# Altium schematic symbol library SCH - IC-Memory - AT24CM02.SchLib: 1 symbol
Pins are listed as number, name and electrical type; pins without a type are passive.

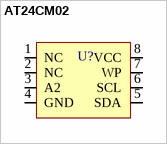
[diagram p0: symbol AT24CM02]

## AT24CM02
designator U?
pins: 1 NC (in) "No Connection", 2 NC (in) "No Connection", 3 A2 (in) "Address Select", 4 GND (power), 5 SDA (io) "Serial Data I/O", 6 SCL (in) "Clock", 7 WP (in) "Non I*nverting Write Protect", 8 VCC (power) "+3.3V"